# EAGLE library part B11B-PH (library con-jst-ph)
JST PH series header 2.00mm pitch disconnectable crimp style connectors, vertical (side entry type), 11 pins
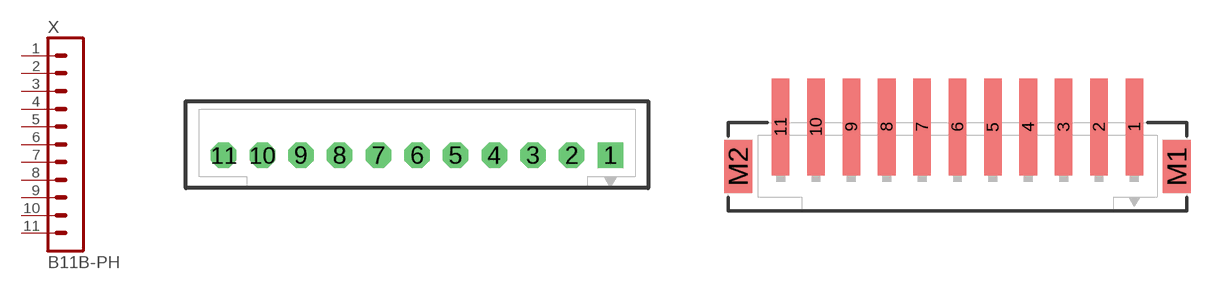
[diagram p5: symbol with the pads of B11B-PH-KL-S; footprints B11B-PH-KL-S, B11B-PH-SM4-TB]

Designator prefix X

## B11B-PH-KL-S  [B11B-PH-KL-S]
1  1  pas
2  2  pas
3  3  pas
4  4  pas
5  5  pas
6  6  pas
7  7  pas
8  8  pas
9  9  pas
10  10  pas
11  11  pas

## B11B-PH-SM4-TB  [B11B-PH-SM4-TB]
Pads as for B11B-PH-KL-S

## Footprint B11B-PH-KL-S (pad centres in mm)
JST PH series header 2.00mm pitch disconnectable crimp style connectors, through-hole vertical (top entry type), 11 pins
drill 0.7 pad 1.321 square: 1 10,0
drill 0.7 pad 1.321 octagon: 2 8,0; 3 6,0; 4 4,0; 5 2,0; 6 0,0; 7 -2,0; 8 -4,0; 9 -6,0; 10 -8,0; 11 -10,0

## Footprint B11B-PH-SM4-TB (pad centres in mm)
JST PH series header 2.00mm pitch disconnectable crimp style connectors, SMT vertical (top entry type), 11 pins
smd 1 x 5.5: 1 10,0; 2 8,0; 3 6,0; 4 4,0; 5 2,0; 6 0,0; 7 -2,0; 8 -4,0; 9 -6,0; 10 -8,0; 11 -10,0
smd 1.6 x 3: M1 12.4,-2.25; M2 -12.4,-2.25